# EAGLE library part SI7005 (library stutz-components-library)
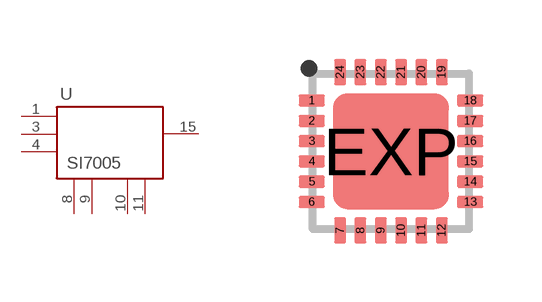
[diagram p10: symbol with the pads of QFN24; footprint QFN24]

Designator prefix -

## SI7005  [QFN24]
1  GND1  pwr
3  SCL  in
4  SDA
8  GND2  pwr
9  VDD  pwr
10  CEXT  pas
11  GND3  pwr
15  CS  in

## Footprint QFN24 (pad centres in mm)
smd 0.66 x 0.3: 1 -1.981,1.27; 2 -1.981,0.762; 3 -1.981,0.254; 4 -1.981,-0.254; 5 -1.981,-0.762; 6 -1.981,-1.27; 13 1.981,-1.27; 14 1.981,-0.762; 15 1.981,-0.254; 16 1.981,0.254; 17 1.981,0.762; 18 1.981,1.27
smd 0.3 x 0.66: 7 -1.27,-1.981; 8 -0.762,-1.981; 9 -0.254,-1.981; 10 0.254,-1.981; 11 0.762,-1.981; 12 1.27,-1.981; 19 1.27,1.981; 20 0.762,1.981; 21 0.254,1.981; 22 -0.254,1.981; 23 -0.762,1.981; 24 -1.27,1.981
smd 2.9 x 2.9: EXP 0,0